# Altium footprint library KNOCKLET_BRAC.PcbLib: 6 footprints
Each footprint in its own frame and in the unit in brackets; x right, y up, seen from the top. Pads: shape width x height; smd on the part's side, far side on the other; paste and mask are expansions set on the pad; w line width, h text height; cw(c..) or ccw(c..) is an arc to the next point about the centre after c.
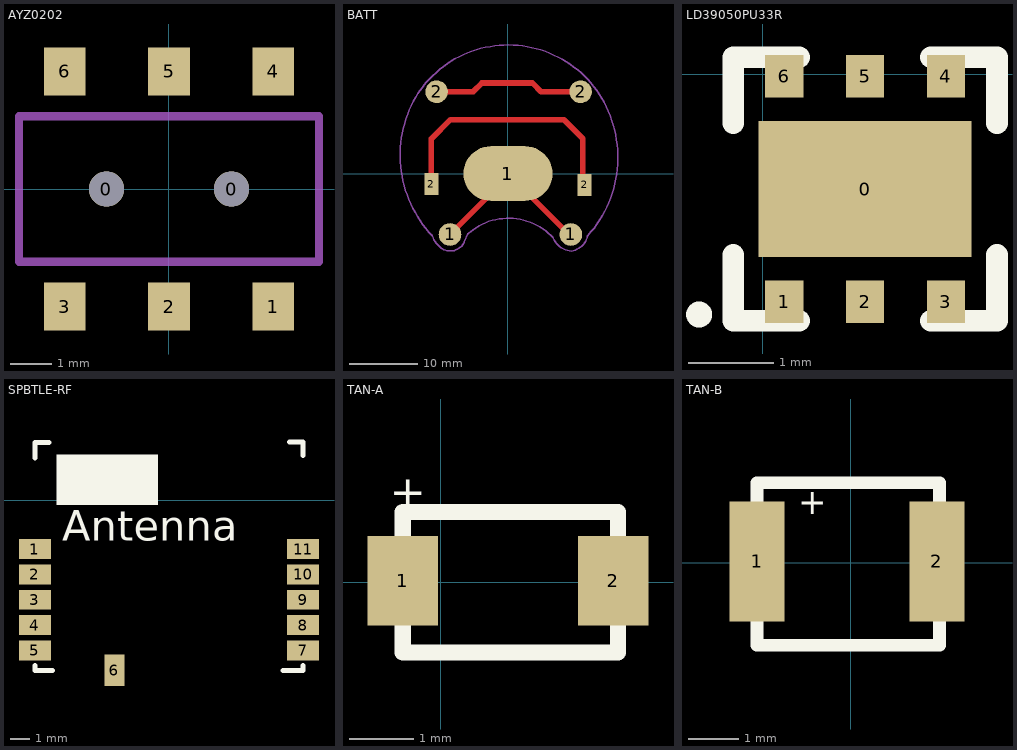
[diagram p0: the footprints below, top view; thin cyan lines are the x and y axes]

## AYZ0202 [mm]
pads (8):
  round 0.85 hole 0.85: 0(-1.489,0.002) 0(1.511,0.002)
  rect 1x1.15 smd: 1(2.511,-2.823) 2(0.011,-2.823) 3(-2.489,-2.823) 4(2.511,2.827) 5(0.011,2.827) 6(-2.489,2.827)
Mechanical 2:
  lines w0.203: -3.589,-1.748 -3.589,1.752 3.611,1.752 3.611,-1.748 -3.589,-1.748

## BATT [mil]
pads (7):
  round 129.91 smd: 1(-333,-350) 1(361,-350) 2(-410,470) 2(417,470)
  rrect100% 511.81x314.96 smd paste-255.91: 1(0,0)
  rect 80x125 smd paste-62.5: 2(-440,-60) 2(440,-65)
Top Layer:
  lines w10: 430,60 440,60
  lines w32: -440,200 -330,310 0,310 320,310 430,200 430,60 ; -410,470 -200,470 -150,520 100,520 140,520 190,470 417,470 ; -333,-350 0,-17 0,0 350,-350 361,-350
  lines w32.01: -440,-60 -440,65 -440,200 ; 430,-55 430,60
Mechanical 1:
  lines w0.32: -250,-391.83 cw(c-331.37,-355.83) -385,-426.83 cw(c-298.31,-312.05) -435,-356.83 cw(c49.02,104.3) -515,463.17 cw(c-103.5,201.43) -470,523.17 cw(c1.96,113.31) 539,433.17 cw(c-43.38,93.73) 458,-356.83 cw(c347.01,-332.87) 362.7,-445.33 cw(c372.29,-325.47) 261.3,-371.73 ; -230,-346.83 cw(c3.5,-603.33) 260,-369.83 ; -516.69,464.24 cw(c-515,463.17) -513.31,462.1 ; -516.69,464.24 ccw(c-515,463.17) -513.31,462.1 ; -516.69,464.24 cw(c-515,463.17) -513.31,462.1 ; -516.69,464.24 ccw(c-515,463.17) -513.31,462.1 ; -471.5,524.49 cw(c-470,523.17) -468.5,521.85 ; -471.5,524.49 ccw(c-470,523.17) -468.5,521.85 ; -471.5,524.49 cw(c-470,523.17) -468.5,521.85 ; -471.5,524.49 ccw(c-470,523.17) -468.5,521.85 ; -386.2,-428.42 ccw(c-385,-426.83) -383.8,-425.24 ; -386.2,-428.42 cw(c-385,-426.83) -383.8,-425.24 ; -386.2,-428.42 ccw(c-385,-426.83) -383.8,-425.24 ; -386.2,-428.42 cw(c-385,-426.83) -383.8,-425.24 ; -251.83,-391.02 ccw(c-250,-391.83) -248.17,-392.64 ; -251.83,-391.02 cw(c-250,-391.83) -248.17,-392.64 ; -251.83,-391.02 ccw(c-250,-391.83) -248.17,-392.64 ; -251.83,-391.02 cw(c-250,-391.83) -248.17,-392.64 ; -436.9,-357.45 cw(c-435,-356.83) -433.1,-356.21 ccw(c-435,-356.83) -436.9,-357.45 ; -436.45,-358.21 ccw(c-435,-356.83) -433.55,-355.45 cw(c-435,-356.83) -436.45,-358.21 ; -353.83,-444.02 cw(c-352,-444.83) -350.17,-445.64 ccw(c-352,-444.83) -353.83,-444.02 ; -231.83,-346.02 cw(c-230,-346.83) -228.17,-347.64 ccw(c-230,-346.83) -231.83,-346.02 ; -231.31,-345.32 ccw(c-230,-346.83) -228.69,-348.34 cw(c-230,-346.83) -231.31,-345.32 ; 453.03,-361.47 cw(c455,-361.83) 456.97,-362.19 ccw(c455,-361.83) 453.03,-361.47 ; 453.51,-360.5 ccw(c455,-361.83) 456.49,-363.16 cw(c455,-361.83) 453.51,-360.5
  lines w8: 260,-369.83 ccw(c3.5,-603.33) -230,-346.83 -250,-391.83 cw(c-331.37,-355.83) -385,-426.83 cw(c-298.31,-312.05) -435,-356.83 cw(c49.02,104.3) -515,463.17 cw(c-103.5,201.43) -470,523.17 cw(c1.96,113.31) 539,433.17 cw(c-43.38,93.73) 458,-356.83 cw(c347.01,-332.87) 362.7,-445.33 cw(c372.29,-325.47) 261.3,-371.73
3D body: height 39.37, standoff 7.87, extent -582.68,-420.28 600.39,385.83

## LD39050PU33R [mm] "500 mA low quiescent current and low noise voltage regulator"
pads (7):
  rect 2.5x1.6 smd: 0(1.2,-1.35)
  rect 0.45x0.5 smd: 1(0.25,-2.675) 2(1.2,-2.675) 3(2.15,-2.675) 4(2.15,-0.025) 5(1.2,-0.025) 6(0.25,-0.025)
Top Overlay:
  circle w0.254: c-0.75,-2.825 r0.025
  lines w0.254: -0.35,-2.125 -0.35,-2.9 0.425,-2.9 ; -0.35,-0.575 -0.35,0.2 0.425,0.2 ; 1.975,-2.9 2.75,-2.9 2.75,-2.125 ; 1.975,0.2 2.75,0.2 2.75,-0.575

## SPBTLE-RF [mm] "Module BlueNRG"
pads (11):
  rect 1.6x1 smd: 1(-25.85,-2.45) 2(-25.85,-3.725) 3(-25.85,-5) 4(-25.85,-6.275) 5(-25.85,-7.55) 7(-12.35,-7.55) 8(-12.35,-6.275) 9(-12.35,-5) 10(-12.35,-3.725) 11(-12.35,-2.45)
  rect 1x1.6 smd: 6(-21.85,-8.55)
Top Overlay:
  rectangle: -24.775,-0.225 -19.65,2.3
  lines w0.254: -25.85,-8.3 -25.85,-8.55 -25.525,-8.55 -24.975,-8.55 ; -25.85,2.125 -25.85,2.925 -25.15,2.925 ; -13.35,-8.55 -12.725,-8.55 -12.35,-8.55 -12.35,-8.3 ; -12.35,2.25 -12.35,2.95 -13.025,2.95 ; -13.025,2.95 -13.025,2.95
  text "Antenna" at -24.475,-2.025 h1.52
3D body: height 1.2, standoff 0.8, extent -25.875,-8.6 -12.35,2.925

## TAN-A [mm]
height 1.6
pads (2):
  rect 1.1x1.4 smd: 1(-0.6,0.025) 2(2.7,0.025)
Top Overlay:
  lines w0.254: -0.6,-1.1 2.775,-1.1 2.775,1.1 -0.6,1.1 -0.6,-1.1
  text "+" at -0.8,1.175 h0.5

## TAN-B [mm]
height 2.1
pads (2):
  rect 1.1x2.4 smd: 1(-1.875,0.025) 2(1.725,0.025)
Top Overlay:
  lines w0.254: -1.875,-1.65 -1.875,1.6 1.775,1.6 1.775,-1.65 -1.875,-1.65
  text "+" at -1.05,0.975 h0.5